# EAGLE library part TB6593FNG (library jabinder)
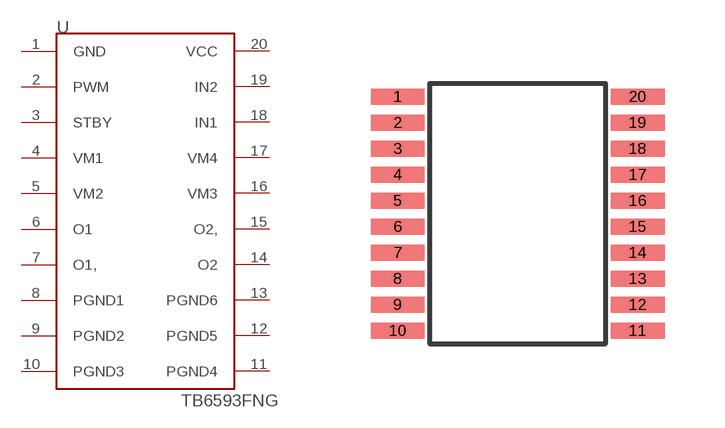
[diagram p0: symbol with the pads of SSOP20; footprint SSOP20]

Designator prefix -

## TB6593FNG  [SSOP20]
1  GND
2  PWM
3  STBY
4  VM1
5  VM2
6  O1
7  O1,
8  PGND1
9  PGND2
10  PGND3
11  PGND4
12  PGND5
13  PGND6
14  O2
15  O2,
16  VM3
17  VM4
18  IN1
19  IN2
20  VCC

## Footprint SSOP20 (pad centres in mm)
smd 1.35 x 0.4: 1 -3,2.925; 2 -3,2.275; 3 -3,1.625; 4 -3,0.975; 5 -3,0.325; 6 -3,-0.325; 7 -3,-0.975; 8 -3,-1.625; 9 -3,-2.275; 10 -3,-2.925; 11 3,-2.925; 12 3,-2.275; 13 3,-1.625; 14 3,-0.975; 15 3,-0.325; 16 3,0.325; 17 3,0.975; 18 3,1.625; 19 3,2.275; 20 3,2.925